# EAGLE library part 2X8_SMT_HEADER (library quentin)
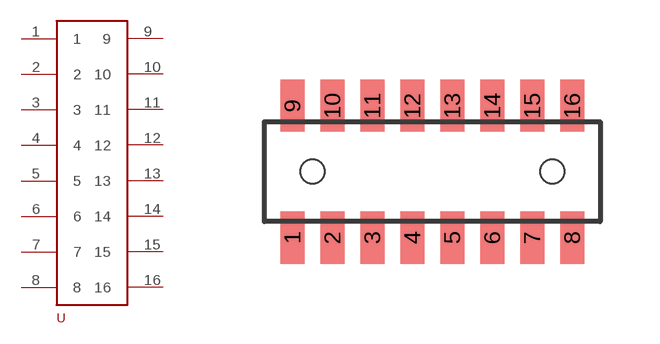
[diagram p8: symbol with the pads of SMD_2X8_HEADER_HARWIN; footprint SMD_2X8_HEADER_HARWIN]

Designator prefix -

## 2X8_SMT_HEADER  [SMD_2X8_HEADER_HARWIN]
1  1
2  2
3  3
4  4
5  5
6  6
7  7
8  8
9  9
10  10
11  11
12  12
13  13
14  14
15  15
16  16

## Footprint SMD_2X8_HEADER_HARWIN (pad centres in mm)
smd 0.6 x 1.3: 1 0,0; 2 1,0; 3 2,0; 4 3,0; 5 4,0; 6 5,0; 7 6,0; 8 7,0; 9 0,3.3; 10 1,3.3; 11 2,3.3; 12 3,3.3; 13 4,3.3; 14 5,3.3; 15 6,3.3; 16 7,3.3
hole 0.6 at 0.5,1.65
hole 0.6 at 6.5,1.65